# EAGLE library part MULTI_OUT (library snes_mb)
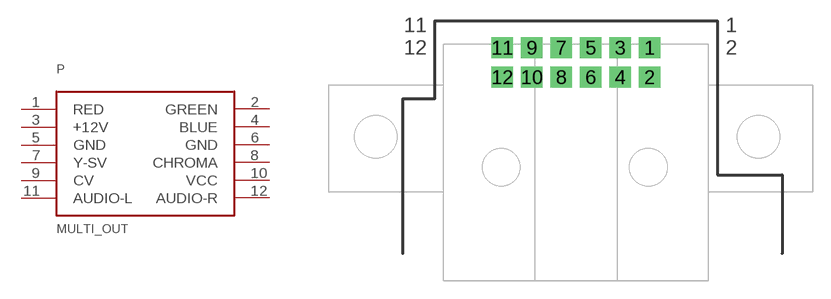
[diagram p16: symbol with the pads of MULTI_OUT; footprint MULTI_OUT]

Designator prefix P

## MULTI_OUT  [MULTI_OUT]
1  RED  in
2  GREEN  in
3  +12V  pwr
4  BLUE  in
5  GND  pwr
6  GND  pwr
7  Y-SV  in
8  CHROMA  in
9  CV  in
10  VCC  pwr
11  AUDIO-L  in
12  AUDIO-R  in

## Footprint MULTI_OUT (pad centres in mm)
drill 1.2 pad 1.5 square: 1 6.25,1.25; 2 6.25,-1.25; 3 3.75,1.25; 4 3.75,-1.25; 5 1.25,1.25; 6 1.25,-1.25; 7 -1.25,1.25; 8 -1.25,-1.25; 9 -3.75,1.25; 10 -3.75,-1.25; 11 -6.25,1.25; 12 -6.25,-1.25